# Altium footprint library Inproject.PcbLib: 19 footprints (part 2 of 2)
Each footprint in its own frame and in the unit in brackets; x right, y up, seen from the top. Pads: shape width x height; smd on the part's side, far side on the other; paste and mask are expansions set on the pad; w line width, h text height; cw(c..) or ccw(c..) is an arc to the next point about the centre after c.
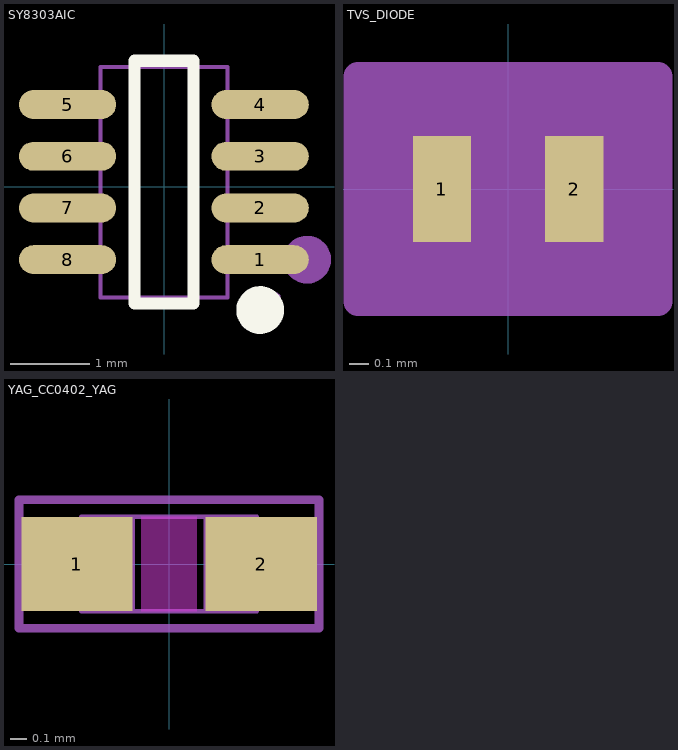
[diagram p1: the footprints below, top view; thin cyan lines are the x and y axes]

## SY8303AIC [mm]
pads (8):
  oval 1.222x0.364 smd paste+0 mask+0.051: 1(1.204,-0.917) 2(1.204,-0.267) 3(1.204,0.383) 4(1.204,1.033) 5(-1.218,1.033) 6(-1.218,0.383) 7(-1.218,-0.267) 8(-1.218,-0.917)
Top Overlay:
  circle w0.3: c1.204,-1.552 r0.15
  lines w0.152: -0.378,-1.469 0.365,-1.469 0.365,1.584 -0.378,1.584 -0.378,-1.469
Top Courtyard:
  circle w0.3: c1.793,-0.917 r0.15
Mechanical 15:
  region: 1.453,-1.392 1.453,-1.368 1.418,-1.332 1.368,-1.332 1.333,-1.368 1.333,-1.392 1.333,-1.417 1.368,-1.452 1.418,-1.452 1.453,-1.417 1.453,-1.392
  region: 1.393,-1.067 0.993,-1.067 0.993,-0.767 1.393,-0.767
  region: 1.003,-1.067 0.783,-1.067 0.783,-0.767 1.003,-0.767
  region: 1.393,-0.417 0.993,-0.417 0.993,-0.117 1.393,-0.117
  region: 1.003,-0.417 0.783,-0.417 0.783,-0.117 1.003,-0.117
  region: 1.393,0.233 0.993,0.233 0.993,0.533 1.393,0.533
  region: 1.003,0.233 0.783,0.233 0.783,0.533 1.003,0.533
  region: 1.393,0.883 0.993,0.883 0.993,1.183 1.393,1.183
  region: 1.003,0.883 0.783,0.883 0.783,1.183 1.003,1.183
  region: -1.407,-1.067 -1.007,-1.067 -1.007,-0.767 -1.407,-0.767
  region: -1.017,-1.067 -0.797,-1.067 -0.797,-0.767 -1.017,-0.767
  region: -1.407,-0.417 -1.007,-0.417 -1.007,-0.117 -1.407,-0.117
  region: -1.017,-0.417 -0.797,-0.417 -0.797,-0.117 -1.017,-0.117
  region: -1.407,0.233 -1.007,0.233 -1.007,0.533 -1.407,0.533
  region: -1.017,0.233 -0.797,0.233 -0.797,0.533 -1.017,0.533
  region: -1.407,0.883 -1.007,0.883 -1.007,1.183 -1.407,1.183
  region: -1.017,0.883 -0.797,0.883 -0.797,1.183 -1.017,1.183
  lines w0.051: -0.807,-1.392 0.793,-1.392 0.793,1.508 -0.807,1.508 -0.807,-1.392
3D body "SOT23-8.stp": height 1.2, standoff 0.02, extent -1.469,-1.449 1.367,1.551

## TVS_DIODE [mil]
pads (2):
  rect 12x22 smd paste+0 mask-1: 1(-13.69,0) 2(13.69,0)
Mechanical 13:
  lines w1: -21,-13.29 -21,13.29 21,13.29 21,-13.29 -21,-13.29
Mechanical 15:
  region: -31,-21 -31,21 -31,23.29 31,23.29 31,21 31,-21 31,-23.29 -31,-23.29
  lines w6: -31,-23.29 31,-23.29 31,-21 31,21 31,23.29 -31,23.29 -31,21 -31,-21 -31,-23.29
3D body "X1-DFN1006-2_RH_DIO.step": height 21.1, standoff 0, extent -20.98,-13.27 20.98,13.27

## YAG_CC0402_YAG [mil]
pads (2):
  rect 26x22 smd paste+0 mask+0: 1(-21.47,0) 2(21.53,0)
Top Layer keep-out:
  region: -6.47,-9 -6.47,9 6.53,9 6.53,-9
Keep-Out Layer:
  region: -6.47,-11 -6.47,11 6.53,11 6.53,-11
Mechanical 13:
  lines w1: -20.47,-11 -20.47,11 ; -20.47,-11 -8.47,-11 -8.47,11 -20.47,11 ; -20.47,-11 20.53,-11 ; -20.47,-11 -20.47,11 ; -20.47,11 20.53,11 ; 20.53,-11 8.53,-11 8.53,11 20.53,11 ; 20.53,-11 20.53,11 ; 20.53,-11 20.53,11
Mechanical 15:
  lines w2: -35,-15 -35,15 35,15 35,-15 -35,-15
3D body "YAG_CC0402_YAG.step": height 22.01, standoff 0, extent -20.48,-10.98 20.54,10.98